# Altium schematic symbol library Trans_RM6-2.SchLib: 1 symbol
Pins are listed as number, name and electrical type; pins without a type are passive.

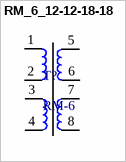
[diagram p0: symbol RM_6_12-12-18-18]

## RM_6_12-12-18-18
designator T?, comment RM-6
footprint TRANS_RM6
pins: 1, 2, 3, 4, 5, 6, 7, 8